# Altium footprint library Touch_Sensor.PcbLib: 1 footprints
Each footprint in its own frame and in the unit in brackets; x right, y up, seen from the top. Pads: shape width x height; smd on the part's side, far side on the other; paste and mask are expansions set on the pad; w line width, h text height; cw(c..) or ccw(c..) is an arc to the next point about the centre after c.
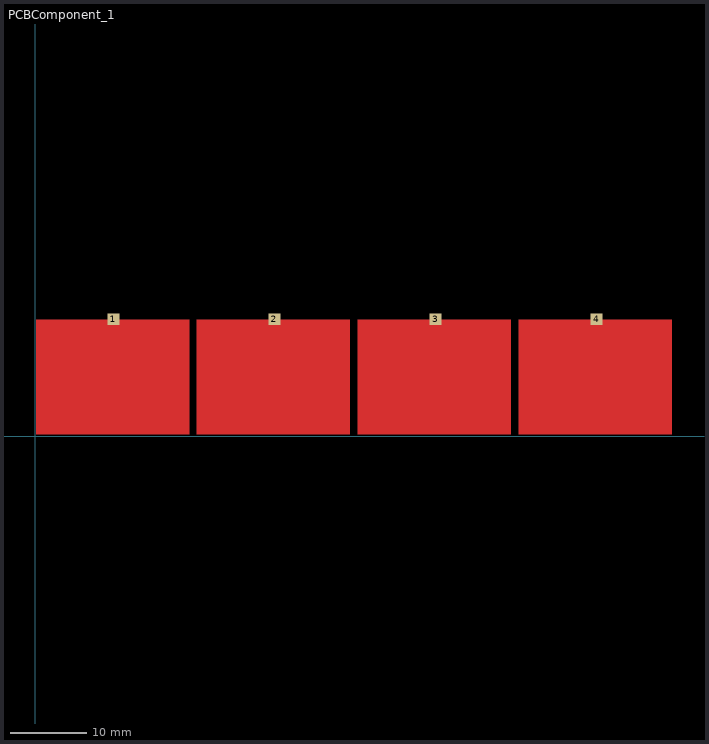
[diagram p0: the footprint, top view; thin cyan lines are the x and y axes]

## PCBComponent_1 [mil]
pads (4):
  rect 60x60 smd: 1(400,600) 2(1225,600) 3(2050,600) 4(2875,600)
Top Layer:
  rectangle: 2475,9.45 3262.4,600
  rectangle: 1650,9.45 2437.4,600
  rectangle: 825,9.45 1612.4,600
  rectangle: 2.6,9.45 790,600